# Altium schematic symbol library AD7475.Schlib: 1 symbol
Pins are listed as number, name and electrical type; pins without a type are passive.

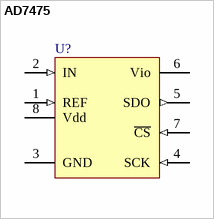
[diagram p0: symbol AD7475]

## AD7475
designator U?
12bit serial ADC; Package Information: Latest Revision: ver11.0, Feb-2003; Configures: APEX II, APEX 20K, Mercury, ACEX 1K & FLEX Devices; Code - JEDEC: MS-026-ABA; Published: 17-Sep-2003; Datasheet: Latest Revision: ver1.1, Oct-2003; Package Reference: TQFP32; Publisher: Altium Limited
footprint SO-8
pins: 1 REF (in), 2 IN (in), 3 GND (power), 4 SCK (in), 5 SDO (out), 6 Vio (power), 7 ~{CS} (in), 8 Vdd (power)